# EAGLE library part LTC3787MPGNPBF (library LTC3787)
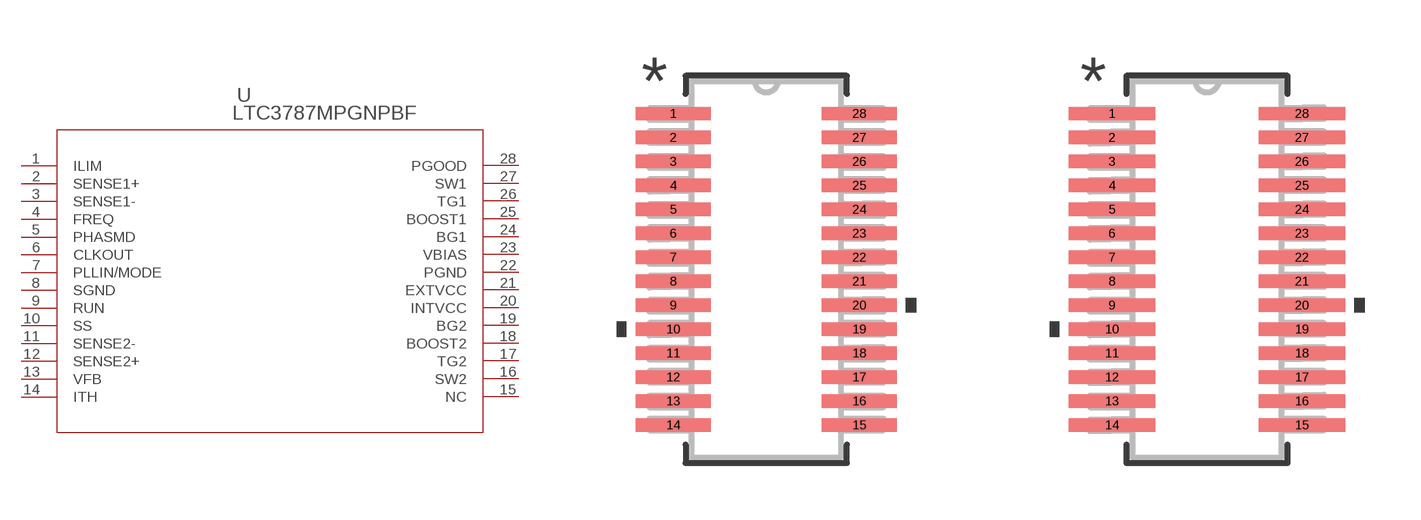
[diagram p0: symbol with the pads of SSOP-28_GN_LIT; footprints SSOP-28_GN_LIT, SSOP-28_GN_LIT-M]

Designator prefix U

## LTC3787MPGNPBF (BUILT_BY: EMA_UL_Team; MANUFACTURER_PART_NUMBER: LTC3787MPGN#PBF; SOURCELIBRARY: LinearTech_2016-05-13_4; VENDOR: Linear Technology)  [SSOP-28_GN_LIT]
1  ILIM  in
2  SENSE1+  in
3  SENSE1-  in
4  FREQ  pas
5  PHASMD  pas
6  CLKOUT  out
7  PLLIN/MODE  in
8  SGND  pwr
9  RUN  in
10  SS
11  SENSE2-  in
12  SENSE2+  in
13  VFB  in
14  ITH  pas
15  NC  nc
16  SW2  pas
17  TG2  pas
18  BOOST2  pas
19  BG2  pas
20  INTVCC  out
21  EXTVCC  in
22  PGND  pwr
23  VBIAS  in
24  BG1  pas
25  BOOST1  pas
26  TG1  pas
27  SW1  pas
28  PGOOD  out

## LTC3787MPGNPBFSSOP-28_GN_LIT-M (BUILT_BY: EMA_UL_Team; MANUFACTURER_PART_NUMBER: LTC3787MPGN#PBF; SOURCELIBRARY: LinearTech_2016-05-13_4; VENDOR: Linear Technology)  [SSOP-28_GN_LIT-M]
Pads as for SSOP-28_GN_LIT

## LTC3787MPGNPBFSSOP-28_GN_LIT-L (BUILT_BY: EMA_UL_Team; MANUFACTURER_PART_NUMBER: LTC3787MPGN#PBF; SOURCELIBRARY: LinearTech_2016-05-13_4; VENDOR: Linear Technology)  [SSOP-28_GN_LIT-L]
Pads as for SSOP-28_GN_LIT

## Footprint SSOP-28_GN_LIT (pad centres in mm)
smd 1.981 x 0.356: 1 -2.464,4.128; 2 -2.464,3.493; 3 -2.464,2.857; 4 -2.464,2.223; 5 -2.464,1.587; 6 -2.464,0.953; 7 -2.464,0.318; 8 -2.464,-0.318; 9 -2.464,-0.953; 10 -2.464,-1.587; 11 -2.464,-2.223; 12 -2.464,-2.857; 13 -2.464,-3.493; 14 -2.464,-4.128; 15 2.464,-4.128; 16 2.464,-3.493; 17 2.464,-2.857; 18 2.464,-2.223; 19 2.464,-1.587; 20 2.464,-0.953; 21 2.464,-0.318; 22 2.464,0.318; 23 2.464,0.953; 24 2.464,1.587; 25 2.464,2.223; 26 2.464,2.857; 27 2.464,3.493; 28 2.464,4.128

## Footprint SSOP-28_GN_LIT-M (pad centres in mm)
smd 2.286 x 0.356: 1 -2.515,4.128; 2 -2.515,3.493; 3 -2.515,2.857; 4 -2.515,2.223; 5 -2.515,1.587; 6 -2.515,0.953; 7 -2.515,0.318; 8 -2.515,-0.318; 9 -2.515,-0.953; 10 -2.515,-1.587; 11 -2.515,-2.223; 12 -2.515,-2.857; 13 -2.515,-3.493; 14 -2.515,-4.128; 15 2.515,-4.128; 16 2.515,-3.493; 17 2.515,-2.857; 18 2.515,-2.223; 19 2.515,-1.587; 20 2.515,-0.953; 21 2.515,-0.318; 22 2.515,0.318; 23 2.515,0.953; 24 2.515,1.587; 25 2.515,2.223; 26 2.515,2.857; 27 2.515,3.493; 28 2.515,4.128

## Footprint SSOP-28_GN_LIT-L (pad centres in mm)
smd 1.676 x 0.305: 1 -2.413,4.128; 2 -2.413,3.493; 3 -2.413,2.857; 4 -2.413,2.223; 5 -2.413,1.587; 6 -2.413,0.953; 7 -2.413,0.318; 8 -2.413,-0.318; 9 -2.413,-0.953; 10 -2.413,-1.587; 11 -2.413,-2.223; 12 -2.413,-2.857; 13 -2.413,-3.493; 14 -2.413,-4.128; 15 2.413,-4.128; 16 2.413,-3.493; 17 2.413,-2.857; 18 2.413,-2.223; 19 2.413,-1.587; 20 2.413,-0.953; 21 2.413,-0.318; 22 2.413,0.318; 23 2.413,0.953; 24 2.413,1.587; 25 2.413,2.223; 26 2.413,2.857; 27 2.413,3.493; 28 2.413,4.128